# EAGLE library part RUW (library converterModules)
MURATA RUW VOLTAGE CONVERTER 8 pin Isolated module (1/2 brick) 16-160V Input, 15W, 24V Output Voltage, .0625-.625A Output Current DATASHEET: http://power.murata.com/data/power/ncl/mdc_ruw15.pdf custom
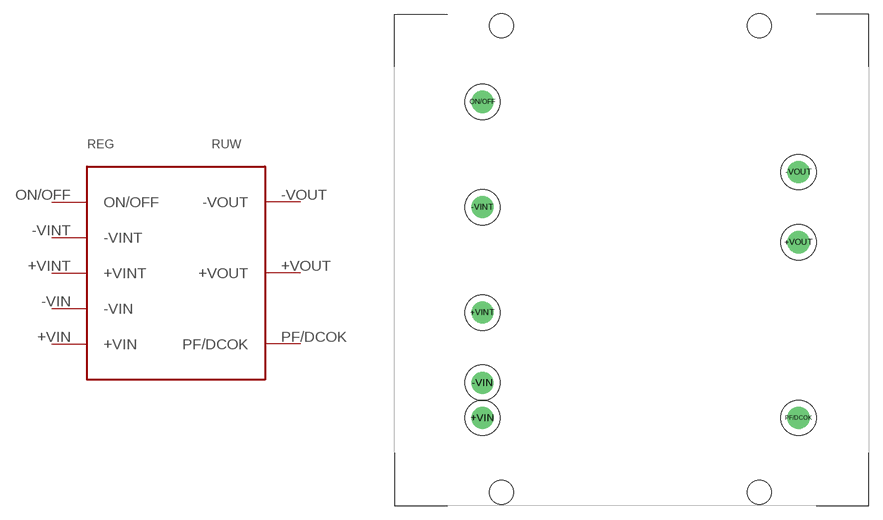
[diagram p1: symbol with the pads of RUW; footprint RUW]

Designator prefix REG

## RUW  [RUW]
+VIN  +VIN
+VINT  +VINT
+VOUT  +VOUT
-VIN  -VIN
-VINT  -VINT
-VOUT  -VOUT
ON/OFF  ON/OFF
PF/DCOK  PF/DCOK

## Footprint RUW (pad centres in mm)
MURATA RUW VOLTAGE CONVERTER 8 pin Isolated module (1/2 brick)
drill 1.6: +VIN 0,-34.29; +VINT 0,-22.86; +VOUT 34.29,-15.24; -VIN 0,-30.48; -VINT 0,-11.43; -VOUT 34.29,-7.62; ON/OFF 0,0; PF/DCOK 34.29,-34.29
hole 2.6 at 2.04,8.25
hole 2.6 at 30.04,8.25
hole 2.6 at 2.04,-42.35
hole 2.6 at 30.04,-42.35